# EAGLE library part 61900811121 (library WR-WTB)
WR-WTB 2.54 mm Male Locking Header Material Properties Insulator Material Nylon 66; PA66 Insulator Flammability Rating UL94 V-0 Insulator Color Beige Color Beige Contact Material Copper Alloy Contact Plating Tin Contact Type Stamped Certification UL Approval E323964 General Information Operating Temperature -40 °C up to +105 °C Compliance RoHS IR 3 A Working Voltage 250 V (AC) Withstanding Voltage 1000 V (AC) Contact Resistance 20 mΩ RISO 1000 MΩ Pitch 2.54 mm Gender Male Type Vertical Packaging Properties Packaging Bag <https://www.we-online.com/components/media/o33345v209%206190xx11121_Multi-parts.jpg> Details see: www.we-online.com/en/components/products/WTB_2_54_MALE_LOCKING_HEADER_6190XX11121 <www.we-online.com/catalog/WTB_2_54_MALE_LOCKING_HEADER_6190XX11121/?utm_source=eagle_model&utm_medium=description_link&utm_campaign=eisos_eagle> Updated by Ella 2025-03-06 2025 (C) Würth Elektronik
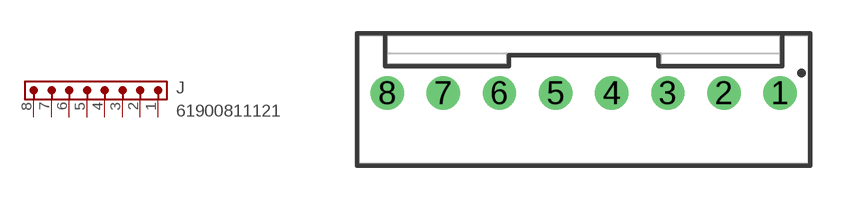
[diagram p28: symbol with the pads of 61900811121; footprint 61900811121]

Designator prefix J

## 61900811121 (CONTACT-RESISTANCE: 20mOhm; DATASHEET-URL: https://www.we-online.com/redexpert/spec/61900811121?ae; GENDER: Male; IR: 3A; L: 20.32mm; MOUNT: THT; PACKAGING: Bag; PART-NUMBER: 61900811121; PCB-CABLE-PANEL: PCB; PINS: 8; PITCH: 2.54mm; TYPE: Vertical; VALUE: 61900811121; WORKING-VOLTAGE: 250V(AC))  [61900811121]
1  1  pas
2  2  pas
3  3  pas
4  4  pas
5  5  pas
6  6  pas
7  7  pas
8  8  pas

## Footprint 61900811121 (pad centres in mm)
WR-WTB 2.54 mm Male Locking Header,8 Pins
drill 1: 1 8.89,0.3; 2 6.35,0.3; 3 3.81,0.3; 4 1.27,0.3; 5 -1.27,0.3; 6 -3.81,0.3; 7 -6.35,0.3; 8 -8.89,0.3